# Altium schematic symbol library Solder_Bump.SchLib: 3 symbols
Pins are listed as number, name and electrical type; pins without a type are passive.

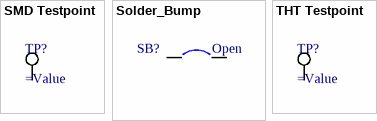
[diagram p0: symbols SMD Testpoint to THT Testpoint]

## SMD Testpoint
designator TP?
Test Point, 1 Position SMD, RoHS, Tape and Reel; ComponentLink1Description: Manufacturer URL; ComponentLink2URL: http://www.keyelco.com/product-pdf.cfm?p=1357; ComponentLink1URL: http://www.keyelco.com/; ComponentLink2Description: Datasheet
footprint KSTN-5019_V (Test Point, 1-Leads, Body 3.81x2.03mm)
pins: 1

## Solder_Bump
designator SB?, comment Open  (no BOM)
Solder Bump; Revision: July-2002: Re-released for DXP Platform.
footprint SB_0603 (Jumper)
pins: 1, 2

## THT Testpoint
designator TP?
Test Point, 1 Position SMD, RoHS, Tape and Reel; ComponentLink1Description: Manufacturer URL; ComponentLink2URL: http://www.keyelco.com/product-pdf.cfm?p=1357; ComponentLink1URL: http://www.keyelco.com/; ComponentLink2Description: Datasheet
footprint KSTN-5019_V (Test Point, 1-Leads, Body 3.81x2.03mm)
pins: 1